# Altium integrated library AEVC-bodyBoard.IntLib: 11 symbols
Pins are listed as number, name and electrical type; pins without a type are passive.

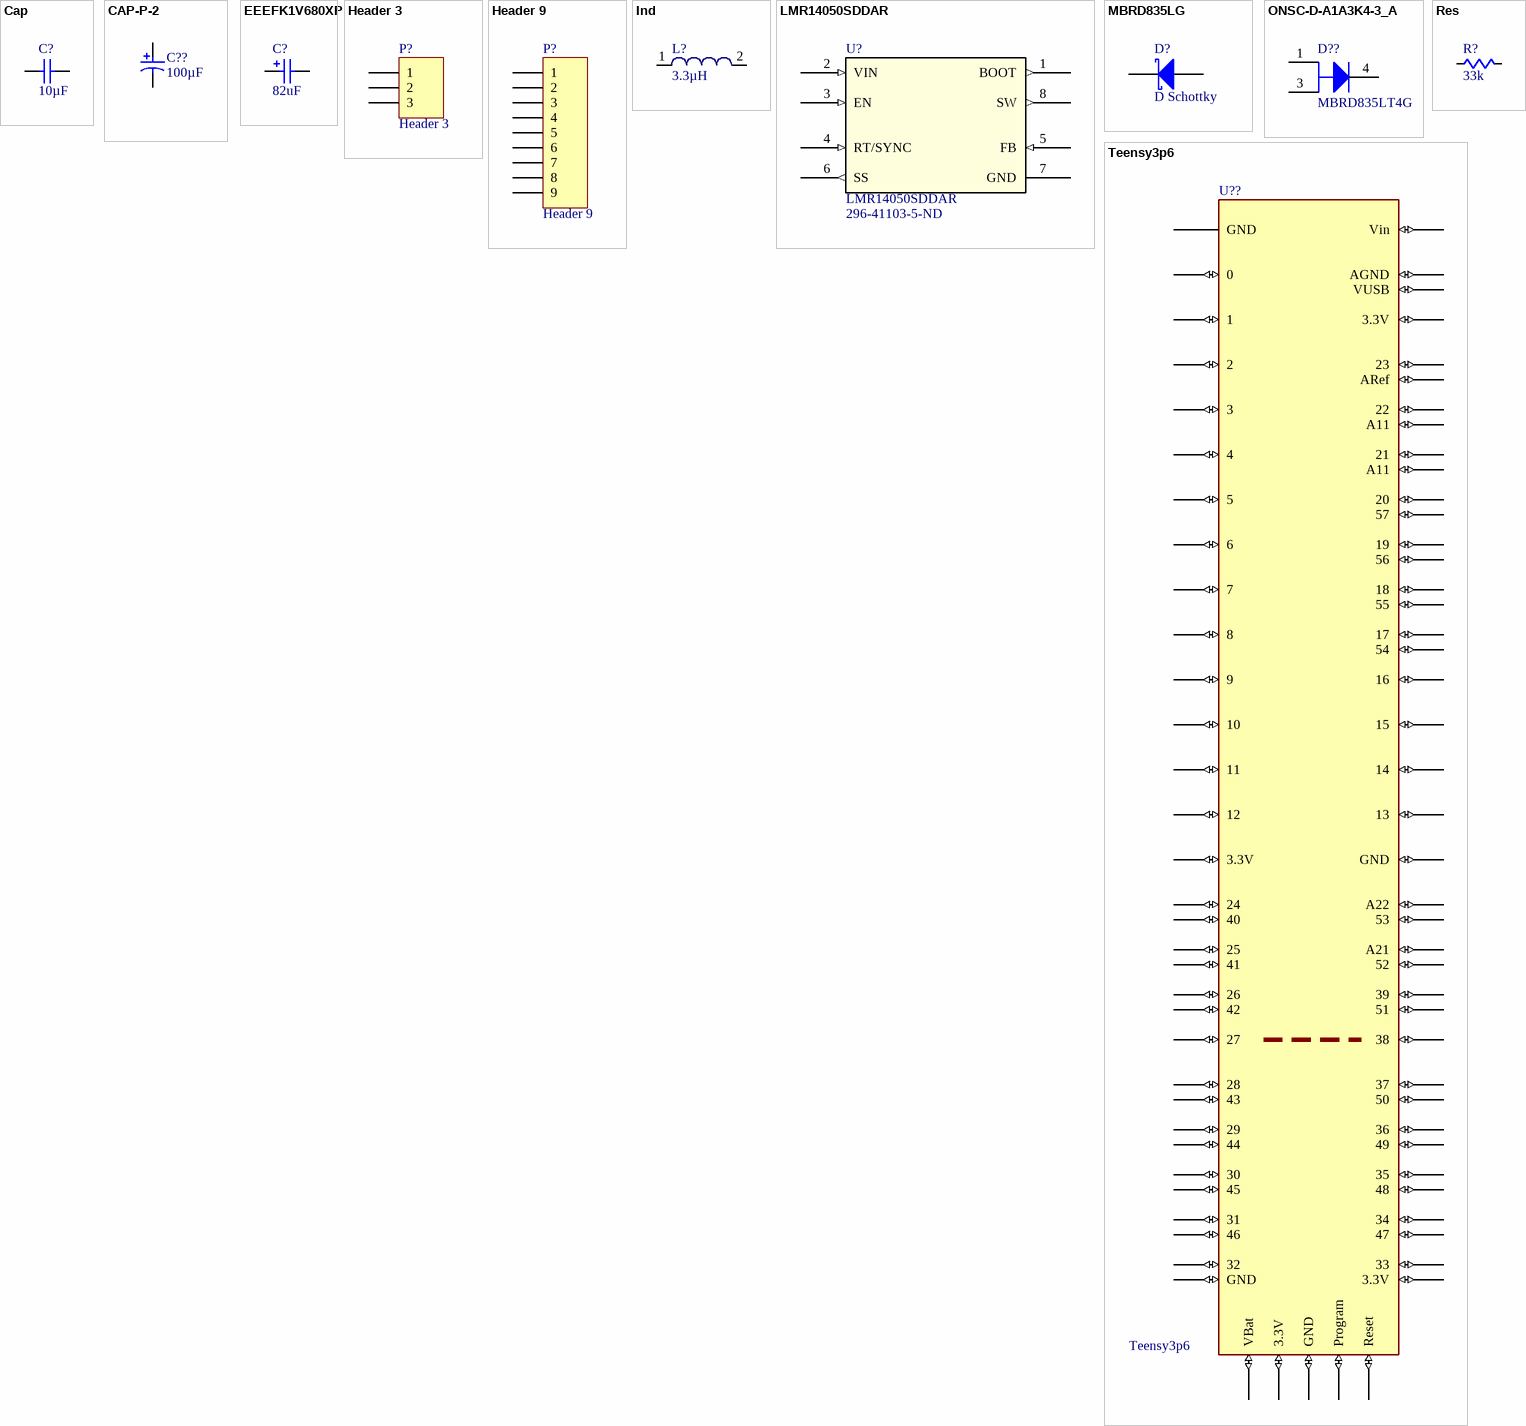
[diagram p0: symbols Cap to Teensy3p6]

## Cap
designator C?  value 10µF  (hidden comment: Cap)
capacitor
footprint C0201 (Chip Capacitor, 2-Leads, Body 0.60x0.30mm, IPC Medium Density)
footprint C0402 (Chip Capacitor, 2-Leads, Body 1.00x0.50mm, IPC Medium Density)
footprint C0603 (Chip Capacitor, 2-Leads, Body 1.60x0.80mm, IPC Medium Density)
footprint C0805 (Chip Capacitor, 2-Leads, Body 2.00x1.25mm, IPC Medium Density)
footprint C1206 (Chip Capacitor, 2-Leads, Body 3.20x1.60mm, IPC Medium Density)
footprint C1210 (Chip Capacitor, 2-Leads, Body 3.20x2.50mm, IPC Medium Density)
footprint C2010 (Chip Capacitor, 2-Leads, Body 5.00x2.50mm, IPC Medium Density)
pins: 1, 2

## CAP-P-2
designator C??, comment Capacitance: 100µF  (hidden comment: EEEFK1E101XP)
Aluminum Electrolytic Capacitor, 100 uF, +/- 20%, 25 V, 2-Pin SMD (Size Code D8), -55 to 105 degC, RoHS, Tape and Reel; Manufacturer: Panasonic; Type: Can; Lifetime@Temperature: 2000Hrs@105°C; Rated Voltage: 25V; Ripple Current: 280mA; Impedance: 0.34O; Case Size/Dimension: Ø6.3x7.7mm; Operating Temp-Max: 105°C; Series: FK; Package URL: http://industrial.panasonic.com/cdbs/www-data/pdf/RDE0000/DME0000COL48.pdf; Mounting Technology: SurfaceMount; Package Description: 2-Pin Electrolytic Aluminum Capacitor, Body 6.6 x 6.6 mm; Datasheet Version: 03/2016; Datasheet URL: http://industrial.panasonic.com/cdbs/www-data/pdf/RDE0000/ABA0000C1181.pdf; Manufacturer URL: http://www.panasonic.com/; Package Reference: FK-V-D8; Operating Temp Range: -55to+105°C
footprint PNSC-FK-V-D8_V (CAPAE, 2-Leads, Body 6.80x6.80mm)
pins: 1, 2

## EEEFK1V680XP
designator C?  value 82uF  (hidden comment: EEEFK1V680XP)
Polarized Capacitor (Surface Mount); Vendor: Panasonic; Built_By: EMA_UL_Team; C: Copyright (C) 2015 Accelerated Designs. All rights reserved; Manufacturer_Part_Number: EEEFK1V680XP; Supplier 1: Digi-Key; Supplier Part Number 1: P18960DKR-ND
footprint CAP_EEFK_D8
pins: 1, 2

## Header 3
designator P?
Header, 3-Pin; LatestRevisionDate: 17-Jul-2002; LatestRevisionNote: Re-released for DXP Platform.; Publisher: Altium Limited
footprint HDR1X3 (Connector; Header; 3 Position)
signal-integrity model Connector
pins: 1, 2, 3

## Header 9
designator P?
Header, 9-Pin; LatestRevisionDate: 17-Jul-2002; LatestRevisionNote: Re-released for DXP Platform.; Publisher: Altium Limited
footprint HDR1X9 (Connector; Header; 9 Position)
signal-integrity model Connector
pins: 1, 2, 3, 4, 5, 6, 7, 8, 9

## Ind
designator L?  value 3.3µH  (hidden comment: Ind)
Inductor; Supplier 1: Digi-Key; Supplier Part Number 1: 541-2580-1-ND
footprint IHLP-2525C7 (Chip Inductor, 2-Leads, Body 6.47x6.47mm, IPC Medium Density)
pins: 1, 2

## LMR14050SDDAR
designator U?  Supplier Part Number 1: 296-41103-5-ND
dc-dc converter; Vendor: Texas Instruments; Built_By: EMA_UL_Team; C: Copyright (C) 2016 Accelerated Designs. All rights reserved; Manufacturer_Part_Number: LMR14050SDDAR; Value: Value; Type: Type; RefDes: RefDes; Supplier 1: Digi-Key
footprint DDA8
footprint DDA8-L
footprint DDA8-M
pins: 1 BOOT (out), 2 VIN (in), 3 EN (in), 4 RT/SYNC (in), 5 FB (in), 6 SS (out), 7 GND (power), 8 SW (out)

## MBRD835LG
designator D?, comment D Schottky
Schottky barrier rectifyer, 8.0A, 35V; Supplier 1: Digi-Key; Supplier Part Number 1: MBRD835LGOS-ND
footprint DPAK (Switch mode power recifyer IC)
pins: 1 A, 2 K

## ONSC-D-A1A3K4-3_A
designator D??, comment MBRD835LT4G
SWITCHMODE(TM) Power Rectifier, 3-Pin DPAK, Pb-Free, Tape and Reel; Manufacturer: On Semiconductor; IFSM Max (A): 75; Configuration: Single; ComponentLink3URL: http://www.onsemi.cn/pub_link/Collateral/369C.PDF; ComponentLink2URL: http://www.onsemi.cn/pub_link/Collateral/MBRD835L-D.PDF; RoHS: TRUE; PackageVersion: Rev. E, 02/2014; Mounting Technology: Surface Mount; PackageDescription: 3-Pin Flange Mount, Body 6.54 x 6.095 mm, Pitch 2.29 mm; PartNumber: MBRD835LT4G; ComponentLink1URL: http://www.onsemi.com/; PackageReference: DPAK-3-369C-01; Packing: Tape and Reel; ComponentLink1Description: Manufacturer URL; ComponentLink2Description: Datasheet; DatasheetVersion: Rev. 11; ComponentLink3Description: Package Specification
footprint ONSC-DPAK-3-369C-01_V (DPAK, 3-Leads, Body 6.54x6.095mm, Pitch 2.29mm)
pins: 1 A, 3 A, 4 K

## Res
designator R?  value 33k  (hidden comment: Res)
resistor
footprint R0201 (Chip Resistor, 2-Leads, Body 0.60x0.30mm, IPC Medium Density)
footprint R0603 (Chip Resistor, 2-Leads, Body 1.60x0.80mm, IPC Medium Density)
footprint R0805 (Chip Resistor, 2-Leads, Body 2.00x1.25mm, IPC Medium Density)
footprint R1206 (Chip Resistor, 2-Leads, Body 3.20x1.60mm, IPC Medium Density)
footprint R1210 (Chip Resistor, 2-Leads, Body 3.20x2.50mm, IPC Medium Density)
footprint R2010 (Chip Resistor, 2-Leads, Body 5.00x2.50mm, IPC Medium Density)
footprint R0402 (Chip Resistor, 2-Leads, Body 1.00x0.50mm, IPC Medium Density)
pins: 1, 2

## Teensy3p6
designator U??
footprint Teensy3p6_full (TH, all pins)
pins: 0 GND (power), 1 0 (io), 2 1 (io), 3 2 (io), 4 3 (io), 5 4 (io), 6 5 (io), 7 6 (io), 8 7 (io), 9 8 (io), 10 9 (io), 11 10 (io), 12 11 (io), 13 12 (io), 14 3.3V (io), 15 24 (io), 16 25 (io), 17 26 (io), 18 27 (io), 19 28 (io), 20 29 (io), 21 30 (io), 22 31 (io), 23 32 (io), 24 33 (io), 25 34 (io), 26 35 (io), 27 36 (io), 28 37 (io), 29 38 (io), 30 39 (io), 31 A21 (io), 32 A22 (io), 33 GND (io), 34 13 (io), 35 14 (io), 36 15 (io), 37 16 (io), 38 17 (io), 39 18 (io), 40 19 (io), 41 20 (io), 42 21 (io), 43 22 (io), 44 23 (io), 45 3.3V (io), 46 AGND (io), 47 Vin (io), 48 VBat (io), 49 3.3V (io), 50 GND (io), 51 Program (io), 52 Reset (io), 53 40 (io), 54 41 (io), 55 42 (io), 56 43 (io), 57 44 (io), 58 45 (io), 59 46 (io), 60 GND (io), 61 3.3V (io), 62 47 (io), 63 48 (io), 64 49 (io), 65 50 (io), 66 51 (io), 67 52 (io), 68 53 (io), 69 54 (io), 70 55 (io), 71 56 (io), 72 57 (io), 73 A11 (io), 74 A11 (io), 75 ARef (io), 76 VUSB (io)